# Altium footprint library PcbLib1.PcbLib: 3 footprints
Each footprint in its own frame and in the unit in brackets; x right, y up, seen from the top. Pads: shape width x height; smd on the part's side, far side on the other; paste and mask are expansions set on the pad; w line width, h text height; cw(c..) or ccw(c..) is an arc to the next point about the centre after c.
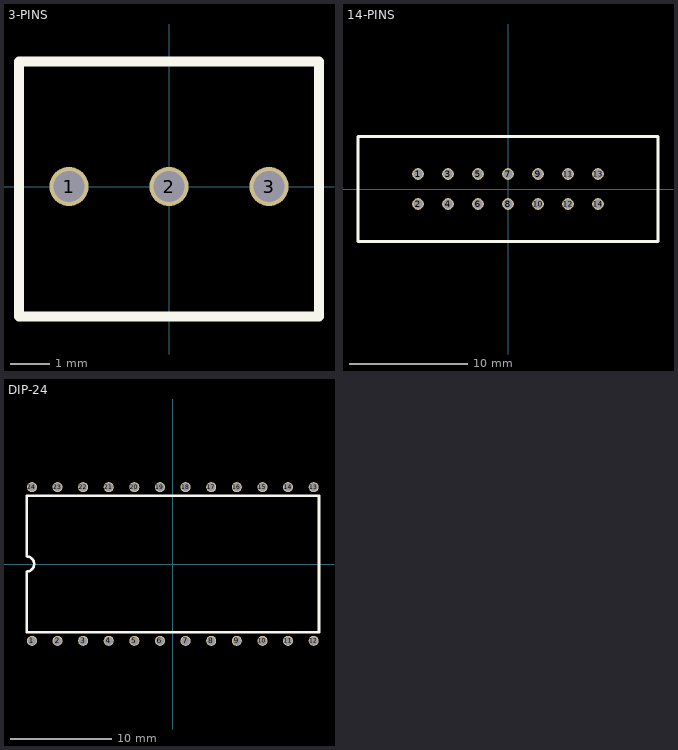
[diagram p0: the footprints below, top view; thin cyan lines are the x and y axes]

## 3-PINS [mm] "WM14660-ND"
pads (3):
  round 1 hole 0.8: 1(-2.54,0) 2(0,0) 3(2.54,0)
Top Overlay:
  lines w0.254: -3.81,-3.302 -3.81,3.175 3.81,3.175 3.81,-3.302 -3.81,-3.302
3D body "022232031.stp": height 10.08, standoff -4.14, extent -3.734,-3.251 3.734,3.099

## 14-PINS [mm] "WM17469-ND"
pads (14):
  round 1 hole 0.8: 1(-7.62,1.27) 2(-7.62,-1.27) 3(-5.08,1.27) 4(-5.08,-1.27) 5(-2.54,1.27) 6(-2.54,-1.27) 7(0,1.27) 8(0,-1.27) 9(2.54,1.27) 10(2.54,-1.27) 11(5.08,1.27) 12(5.08,-1.27) 13(7.62,1.27) 14(7.62,-1.27)
Top Overlay:
  lines w0.254: -12.7,-4.445 -12.7,4.445 12.7,4.445 12.7,-4.445 -12.7,-4.445
3D body "702461401.stp": height 8.95, standoff -3.74, extent -12.7,-4.445 12.7,4.445

## DIP-24 [mm] "AM25S05"
pads (24):
  round 1 hole 0.8: 1(-13.97,-7.62) 2(-11.43,-7.62) 3(-8.89,-7.62) 4(-6.35,-7.62) 5(-3.81,-7.62) 6(-1.27,-7.62) 7(1.27,-7.62) 8(3.81,-7.62) 9(6.35,-7.62) 10(8.89,-7.62) 11(11.43,-7.62) 12(13.97,-7.62) 13(13.97,7.62) 14(11.43,7.62) 15(8.89,7.62) 16(6.35,7.62) 17(3.81,7.62) 18(1.27,7.62) 19(-1.27,7.62) 20(-3.81,7.62) 21(-6.35,7.62) 22(-8.89,7.62) 23(-11.43,7.62) 24(-13.97,7.62)
Top Overlay:
  lines w0.254: -14.5,-6.75 14.5,-6.75 14.5,6.75 -14.5,6.75 -14.5,0.75 cw(c-14.5,0) -14.5,-0.75 -14.5,-6.75
3D body "User Library-DIP-24P-M02.STEP": height 5, standoff -3, extent -15.1,-7.74 15.1,7.75